# Altium footprint library DSBGA.PcbLib: 1 footprints
Each footprint in its own frame and in the unit in brackets; x right, y up, seen from the top. Pads: shape width x height; smd on the part's side, far side on the other; paste and mask are expansions set on the pad; w line width, h text height; cw(c..) or ccw(c..) is an arc to the next point about the centre after c.
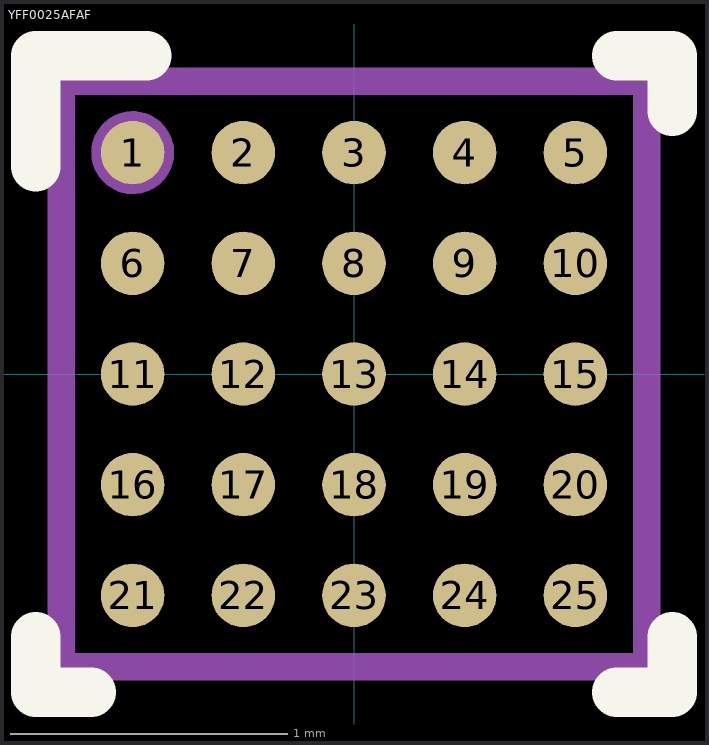
[diagram p0: the footprint, top view; thin cyan lines are the x and y axes]

## YFF0025AFAF [mm]
pads (25):
  round 0.23 smd paste-0.102 mask+0.038: 1(-0.8,0.8) 2(-0.4,0.8) 3(0,0.8) 4(0.4,0.8) 5(0.8,0.8) 6(-0.8,0.4) 7(-0.4,0.4) 8(0,0.4) 9(0.4,0.4) 10(0.8,0.4) 11(-0.8,0) 12(-0.4,0) 13(0,0) 14(0.4,0) 15(0.8,0) 16(-0.8,-0.4) 17(-0.4,-0.4) 18(0,-0.4) 19(0.4,-0.4) 20(0.8,-0.4) 21(-0.8,-0.8) 22(-0.4,-0.8) 23(0,-0.8) 24(0.4,-0.8) 25(0.8,-0.8)
Top Overlay:
  lines w0.18: -1.15,-0.95 -1.15,-1.15 -0.95,-1.15 ; -1.15,0.75 -1.15,1.15 -0.75,1.15 ; 0.95,-1.15 1.15,-1.15 1.15,-0.95 ; 0.95,1.15 1.15,1.15 1.15,0.95
Top Paste:
  drawing of 25 lines, arcs and shapes, not listed
Mechanical 13:
  circle w0.1: c-0.8,0.8 r0.1
  lines w0.1: -1.057,-1.057 1.057,-1.057 1.057,1.057 -1.057,1.057 -1.057,-1.057
3D body "User Library-BGA25C40P5X5_207X209X62.STEP": height 0.63, standoff 0.01, extent -1.035,-1.045 1.035,1.045